# Altium footprint library SOT-25.PcbLib: 1 footprints
Each footprint in its own frame and in the unit in brackets; x right, y up, seen from the top. Pads: shape width x height; smd on the part's side, far side on the other; paste and mask are expansions set on the pad; w line width, h text height; cw(c..) or ccw(c..) is an arc to the next point about the centre after c.
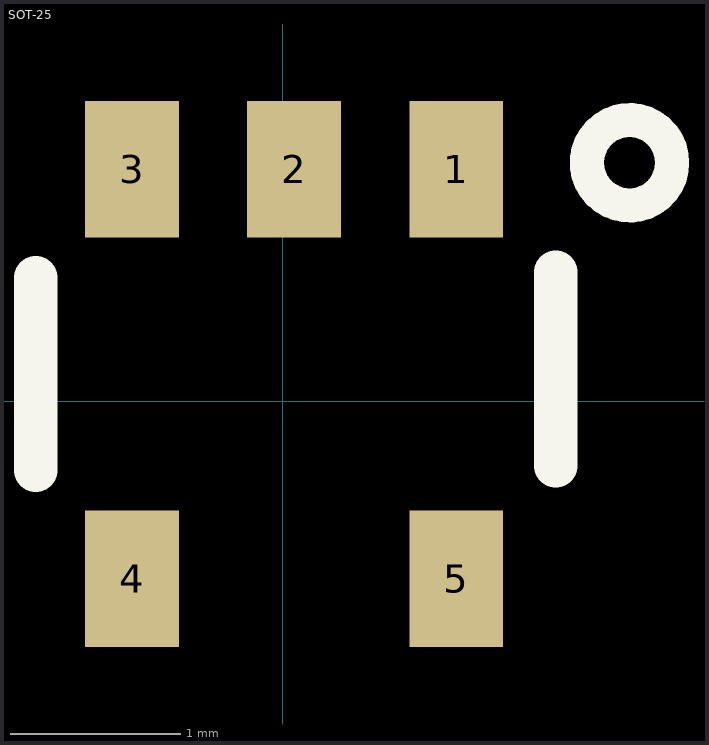
[diagram p0: the footprint, top view; thin cyan lines are the x and y axes]

## SOT-25 [mm]
height 1.3
pads (5):
  rect 0.55x0.8 smd: 1(1.016,1.359) 2(0.066,1.359) 3(-0.884,1.359) 4(-0.884,-1.041) 5(1.016,-1.041)
Top Overlay:
  circle w0.2: c2.032,1.397 r0.25
  lines w0.254: -1.448,-0.406 -1.448,0.724 ; 1.6,-0.381 1.6,0.754
3D body "SOT23_5.stp": height 0.92, standoff 0.01, extent -1.425,-1.45 1.575,1.755